# EAGLE library part ISL91110IRNZ-T7A (library voltage_reg_parts)
Integrated FET Regulators High Current Buck Boost Switching Regulator Delivering 2A of Continuous Output Current Source: Datasheet <https://datasheet.datasheetarchive.com/originals/distributors/Datasheets_SAMA/d3e5c1b0a1d99c18e56c54f82b79d217.pdf>
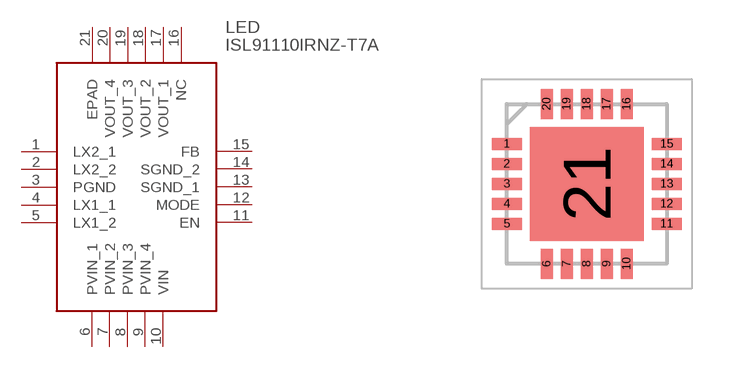
[diagram p0: symbol with the pads of QFN50P400X400X100-21N; footprint QFN50P400X400X100-21N]

Designator prefix LED

## ISL91110IRNZ-T7A (Description: Integrated FET Regulators High Current Buck Boost Switching Regulator Delivering 2A of Continuous Output Current; Height: 1mm; Manufacturer_Name: Renesas Electronics; Manufacturer_Part_Number: ISL91110IRNZ-T7A; Mouser_Part_Number: 968-ISL91110IRNZ-T7A; Mouser_Price-Stock: https://www.mouser.co.uk/ProductDetail/Renesas-Intersil/ISL91110IRNZ-T7A?qs=vyIerDHf%2Fmmihws9YL5pdg%3D%3D)  [QFN50P400X400X100-21N]
1  LX2_1
2  LX2_2
3  PGND
4  LX1_1
5  LX1_2
6  PVIN_1
7  PVIN_2
8  PVIN_3
9  PVIN_4
10  VIN
11  EN
12  MODE
13  SGND_1
14  SGND_2
15  FB
16  NC  nc
17  VOUT_1
18  VOUT_2
19  VOUT_3
20  VOUT_4
21  EPAD

## Footprint QFN50P400X400X100-21N (pad centres in mm)
L20.4x4C-1
smd 0.75 x 0.3: 1 -2,1; 2 -2,0.5; 3 -2,0; 4 -2,-0.5; 5 -2,-1; 11 2,-1; 12 2,-0.5; 13 2,0; 14 2,0.5; 15 2,1
smd 0.3 x 0.75: 6 -1,-2; 7 -0.5,-2; 8 0,-2; 9 0.5,-2; 10 1,-2; 16 1,2; 17 0.5,2; 18 0,2; 19 -0.5,2; 20 -1,2
smd 2.85 x 2.85: 21 0,0